# Altium footprint library 贴片.PcbLib: 190 footprints (part 7 of 13)
Each footprint in its own frame and in the unit in brackets; x right, y up, seen from the top. Pads: shape width x height; smd on the part's side, far side on the other; paste and mask are expansions set on the pad; w line width, h text height; cw(c..) or ccw(c..) is an arc to the next point about the centre after c.
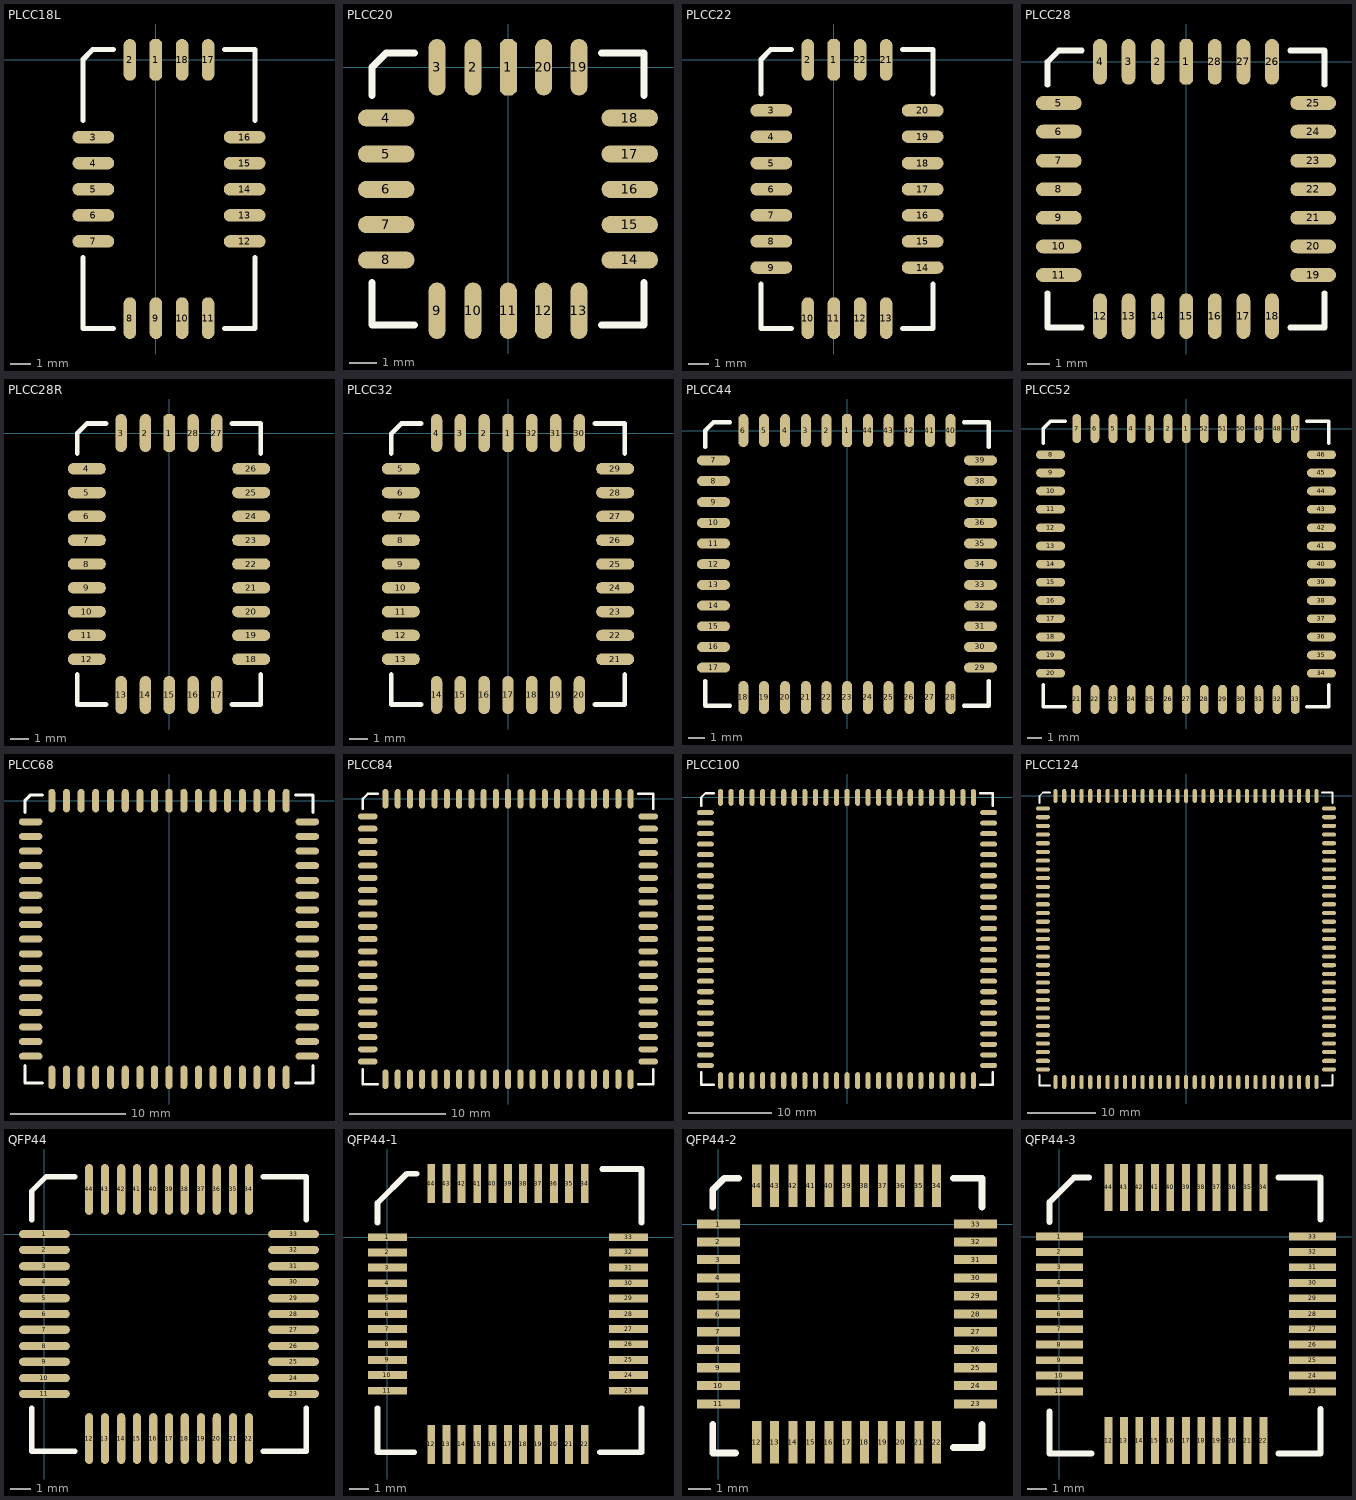
[diagram p6: the footprints below, top view; thin cyan lines are the x and y axes]

## PLCC18L [mil]
pads (18):
  oct 24x80 smd: 1(0,0)
  oval 24x80 smd: 2(-50,0) 8(-50,-495) 9(0,-495) 10(50,-495) 11(100,-495) 17(100,0) 18(50,0)
  oval 80x24 smd: 3(-120,-148) 4(-120,-198) 5(-120,-248) 6(-120,-298) 7(-120,-348) 12(170,-348) 13(170,-298) 14(170,-248) 15(170,-198) 16(170,-148)
TopOverlay:
  lines w10: -140,-379 -140,-515 -82,-515 ; -140,-116 -140,1 -121,20 -82,20 ; 132,-515 190,-515 190,-379 ; 132,20 190,20 190,-116

## PLCC20 [mil]
pads (20):
  oct 24x80 smd: 1(0,0)
  oval 24x80 smd: 2(-50,0) 3(-101,0) 9(-101,-345) 10(-50,-345) 11(0,-345) 12(50,-345) 13(100,-345) 19(100,0) 20(50,0)
  oval 80x24 smd: 4(-173,-72) 5(-173,-123) 6(-173,-173) 7(-173,-223) 8(-173,-273) 14(172,-273) 15(172,-223) 16(172,-173) 17(172,-123) 18(172,-72)
TopOverlay:
  lines w10: -193,-305 -193,-365 -133,-365 ; -193,-40 -193,0 -173,20 -133,20 ; 132,-365 192,-365 192,-305 ; 132,20 192,20 192,-40

## PLCC22 [mil]
pads (22):
  oct 24x80 smd: 1(0,0)
  oval 24x80 smd: 2(-50,0) 10(-50,-495) 11(0,-495) 12(50,-495) 13(100,-495) 21(100,0) 22(50,0)
  oval 80x24 smd: 3(-120,-97) 4(-120,-147) 5(-120,-198) 6(-120,-248) 7(-120,-298) 8(-120,-348) 9(-120,-398) 14(170,-398) 15(170,-348) 16(170,-298) 17(170,-248) 18(170,-198) 19(170,-147) 20(170,-97)
TopOverlay:
  lines w10: -140,-430 -140,-515 -82,-515 ; -140,-65 -140,1 -121,20 -82,20 ; 132,-515 190,-515 190,-430 ; 132,20 190,20 190,-65

## PLCC28 [mil]
pads (28):
  oct 24x80 smd: 1(0,0)
  oval 24x80 smd: 2(-50,0) 3(-101,0) 4(-151,0) 12(-151,-445) 13(-101,-445) 14(-50,-445) 15(0,-445) 16(50,-445) 17(100,-445) 18(150,-445) 26(150,0) 27(100,0) 28(50,0)
  oval 80x24 smd: 5(-223,-72) 6(-223,-122) 7(-223,-173) 8(-223,-223) 9(-223,-273) 10(-223,-323) 11(-223,-373) 19(222,-373) 20(222,-323) 21(222,-273) 22(222,-223) 23(222,-173) 24(222,-122) 25(222,-72)
TopOverlay:
  lines w10: -243,-405 -243,-465 -183,-465 ; -243,-40 -243,0 -223,20 -183,20 ; 182,-465 242,-465 242,-405 ; 182,20 242,20 242,-40

## PLCC28R [mil]
pads (28):
  oct 24x80 smd: 1(0,0)
  oval 24x80 smd: 2(-50,0) 3(-101,0) 13(-101,-550) 14(-50,-550) 15(0,-550) 16(50,-550) 17(100,-550) 27(100,0) 28(50,0)
  oval 80x24 smd: 4(-173,-75) 5(-173,-125) 6(-173,-175) 7(-173,-225) 8(-173,-275) 9(-173,-325) 10(-173,-375) 11(-173,-425) 12(-173,-475) 18(172,-475) 19(172,-425) 20(172,-375) 21(172,-325) 22(172,-275) 23(172,-225) 24(172,-175) 25(172,-125) 26(172,-75)
TopOverlay:
  lines w10: -193,-507 -193,-570 -133,-570 ; -193,-43 -193,0 -173,20 -133,20 ; 132,-570 192,-570 192,-507 ; 132,20 192,20 192,-43

## PLCC32 [mil]
pads (32):
  oct 24x80 smd: 1(0,0)
  oval 24x80 smd: 2(-50,0) 3(-100,0) 4(-150,0) 14(-150,-550) 15(-100,-550) 16(-50,-550) 17(0,-550) 18(50,-550) 19(100,-550) 20(150,-550) 30(150,0) 31(100,0) 32(50,0)
  oval 80x24 smd: 5(-225,-75) 6(-225,-125) 7(-225,-175) 8(-225,-225) 9(-225,-275) 10(-225,-325) 11(-225,-375) 12(-225,-425) 13(-225,-475) 21(225,-475) 22(225,-425) 23(225,-375) 24(225,-325) 25(225,-275) 26(225,-225) 27(225,-175) 28(225,-125) 29(225,-75)
TopOverlay:
  lines w10: -245,-507 -245,-570 -182,-570 ; -245,-43 -245,-1 -224,20 -182,20 ; 182,-570 245,-570 245,-507 ; 182,20 245,20 245,-43

## PLCC44 [mil]
pads (44):
  oct 24x80 smd: 1(0,0)
  oval 24x80 smd: 2(-50,0) 3(-100,0) 4(-150,0) 5(-201,0) 6(-251,0) 18(-251,-645) 19(-201,-645) 20(-150,-645) 21(-100,-645) 22(-50,-645) 23(0,-645) 24(50,-645) 25(100,-645) 26(150,-645) 27(200,-645) 28(250,-645) 40(250,0) 41(200,0) 42(150,0) 43(100,0) 44(50,0)
  oval 80x24 smd: 7(-323,-72) 8(-323,-122) 9(-323,-173) 10(-323,-223) 11(-323,-273) 12(-323,-323) 13(-323,-373) 14(-323,-423) 15(-323,-473) 16(-323,-523) 17(-323,-573) 29(322,-573) 30(322,-523) 31(322,-473) 32(322,-423) 33(322,-373) 34(322,-323) 35(322,-273) 36(322,-223) 37(322,-173) 38(322,-122) 39(322,-72)
TopOverlay:
  lines w10: -343,-605 -343,-665 -283,-665 ; -343,-40 -343,0 -323,20 -283,20 ; 282,-665 342,-665 342,-605 ; 282,20 342,20 342,-40

## PLCC52 [mil]
pads (52):
  oct 24x80 smd: 1(0,0)
  oval 24x80 smd: 2(-50,0) 3(-100,0) 4(-151,0) 5(-201,0) 6(-251,0) 7(-301,0) 21(-301,-745) 22(-251,-745) 23(-201,-745) 24(-151,-745) 25(-100,-745) 26(-50,-745) 27(0,-745) 28(50,-745) 29(100,-745) 30(150,-745) 31(200,-745) 32(250,-745) 33(300,-745) 47(300,0) 48(250,0) 49(200,0) 50(150,0) 51(100,0) 52(50,0)
  oval 80x24 smd: 8(-373,-72) 9(-373,-122) 10(-373,-172) 11(-373,-222) 12(-373,-273) 13(-373,-323) 14(-373,-373) 15(-373,-423) 16(-373,-473) 17(-373,-523) 18(-373,-573) 19(-373,-623) 20(-373,-673) 34(372,-673) 35(372,-623) 36(372,-573) 37(372,-523) 38(372,-473) 39(372,-423) 40(372,-373) 41(372,-323) 42(372,-273) 43(372,-222) 44(372,-172) 45(372,-122) 46(372,-72)
TopOverlay:
  lines w10: -393,-705 -393,-765 -333,-765 ; -393,-40 -393,0 -373,20 -333,20 ; 332,-765 392,-765 392,-705 ; 332,20 392,20 392,-40

## PLCC68 [mil]
pads (68):
  oct 24x80 smd: 1(0,0)
  oval 24x80 smd: 2(-50,0) 3(-100,0) 4(-150,0) 5(-200,0) 6(-251,0) 7(-301,0) 8(-351,0) 9(-401,0) 27(-401,-945) 28(-351,-945) 29(-301,-945) 30(-251,-945) 31(-200,-945) 32(-150,-945) 33(-100,-945) 34(-50,-945) 35(0,-945) 36(50,-945) 37(100,-945) 38(150,-945) 39(200,-945) 40(250,-945) 41(300,-945) 42(350,-945) 43(400,-945) 61(400,0) 62(350,0) 63(300,0) 64(250,0) 65(200,0) 66(150,0) 67(100,0) 68(50,0)
  oval 80x24 smd: 10(-473,-72) 11(-473,-122) 12(-473,-172) 13(-473,-222) 14(-473,-273) 15(-473,-323) 16(-473,-373) 17(-473,-423) 18(-473,-473) 19(-473,-523) 20(-473,-573) 21(-473,-623) 22(-473,-673) 23(-473,-723) 24(-473,-773) 25(-473,-823) 26(-473,-873) 44(472,-873) 45(472,-823) 46(472,-773) 47(472,-723) 48(472,-673) 49(472,-623) 50(472,-573) 51(472,-523) 52(472,-473) 53(472,-423) 54(472,-373) 55(472,-323) 56(472,-273) 57(472,-222) 58(472,-172) 59(472,-122) 60(472,-72)
TopOverlay:
  lines w10: -493,-905 -493,-965 -433,-965 ; -493,-40 -493,0 -473,20 -433,20 ; 432,-965 492,-965 492,-905 ; 432,20 492,20 492,-40

## PLCC84 [mil]
pads (84):
  oct 24x80 smd: 1(0,0)
  oval 24x80 smd: 2(-50,0) 3(-100,0) 4(-150,0) 5(-200,0) 6(-250,0) 7(-300,0) 8(-351,0) 9(-401,0) 10(-451,0) 11(-501,0) 33(-501,-1145) 34(-451,-1145) 35(-401,-1145) 36(-351,-1145) 37(-300,-1145) 38(-250,-1145) 39(-200,-1145) 40(-150,-1145) 41(-100,-1145) 42(-50,-1145) 43(0,-1145) 44(50,-1145) 45(100,-1145) 46(150,-1145) 47(200,-1145) 48(250,-1145) 49(300,-1145) 50(350,-1145) 51(400,-1145) 52(450,-1145) 53(500,-1145) 75(500,0) 76(450,0) 77(400,0) 78(350,0) 79(300,0) 80(250,0) 81(200,0) 82(150,0) 83(100,0) 84(50,0)
  oval 80x24 smd: 12(-573,-72) 13(-573,-122) 14(-573,-172) 15(-573,-222) 16(-573,-273) 17(-573,-323) 18(-573,-373) 19(-573,-423) 20(-573,-473) 21(-573,-523) 22(-573,-573) 23(-573,-623) 24(-573,-673) 25(-573,-723) 26(-573,-773) 27(-573,-823) 28(-573,-873) 29(-573,-923) 30(-573,-973) 31(-573,-1023) 32(-573,-1073) 54(572,-1073) 55(572,-1023) 56(572,-973) 57(572,-923) 58(572,-873) 59(572,-823) 60(572,-773) 61(572,-723) 62(572,-673) 63(572,-623) 64(572,-573) 65(572,-523) 66(572,-473) 67(572,-423) 68(572,-373) 69(572,-323) 70(572,-273) 71(572,-222) 72(572,-172) 73(572,-122) 74(572,-72)
TopOverlay:
  lines w10: -593,-1105 -593,-1165 -533,-1165 ; -593,-40 -593,0 -573,20 -533,20 ; 532,-1165 592,-1165 592,-1105 ; 532,20 592,20 592,-40

## PLCC100 [mil]
pads (100):
  oct 24x80 smd: 1(0,0)
  oval 24x80 smd: 2(-50,0) 3(-100,0) 4(-150,0) 5(-201,0) 6(-251,0) 7(-301,0) 8(-351,0) 9(-401,0) 10(-451,0) 11(-501,0) 12(-551,0) 13(-601,0) 39(-601,-1345) 40(-551,-1345) 41(-501,-1345) 42(-451,-1345) 43(-401,-1345) 44(-351,-1345) 45(-301,-1345) 46(-251,-1345) 47(-201,-1345) 48(-150,-1345) 49(-100,-1345) 50(-50,-1345) 51(0,-1345) 52(50,-1345) 53(100,-1345) 54(150,-1345) 55(200,-1345) 56(250,-1345) 57(300,-1345) 58(350,-1345) 59(400,-1345) 60(450,-1345) 61(500,-1345) 62(550,-1345) 63(600,-1345) 89(600,0) 90(550,0) 91(500,0) 92(450,0) 93(400,0) 94(350,0) 95(300,0) 96(250,0) 97(200,0) 98(150,0) 99(100,0) 100(50,0)
  oval 80x24 smd: 14(-673,-72) 15(-673,-122) 16(-673,-172) 17(-673,-222) 18(-673,-272) 19(-673,-322) 20(-673,-372) 21(-673,-422) 22(-673,-472) 23(-673,-523) 24(-673,-573) 25(-673,-623) 26(-673,-673) 27(-673,-723) 28(-673,-773) 29(-673,-823) 30(-673,-873) 31(-673,-923) 32(-673,-973) 33(-673,-1023) 34(-673,-1073) 35(-673,-1123) 36(-673,-1173) 37(-673,-1223) 38(-673,-1273) 64(672,-1273) 65(672,-1223) 66(672,-1173) 67(672,-1123) 68(672,-1073) 69(672,-1023) 70(672,-973) 71(672,-923) 72(672,-873) 73(672,-823) 74(672,-773) 75(672,-723) 76(672,-673) 77(672,-623) 78(672,-573) 79(672,-523) 80(672,-472) 81(672,-422) 82(672,-372) 83(672,-322) 84(672,-272) 85(672,-222) 86(672,-172) 87(672,-122) 88(672,-72)
TopOverlay:
  lines w10: -693,-1305 -693,-1365 -633,-1365 ; -693,-40 -693,0 -673,20 -633,20 ; 632,-1365 692,-1365 692,-1305 ; 632,20 692,20 692,-40

## PLCC124 [mil]
pads (124):
  oct 24x80 smd: 1(0,0)
  oval 24x80 smd: 2(-50,0) 3(-100,0) 4(-150,0) 5(-200,0) 6(-250,0) 7(-300,0) 8(-351,0) 9(-401,0) 10(-451,0) 11(-501,0) 12(-551,0) 13(-601,0) 14(-651,0) 15(-701,0) 16(-751,0) 48(-751,-1645) 49(-701,-1645) 50(-651,-1645) 51(-601,-1645) 52(-551,-1645) 53(-501,-1645) 54(-451,-1645) 55(-401,-1645) 56(-351,-1645) 57(-300,-1645) 58(-250,-1645) 59(-200,-1645) 60(-150,-1645) 61(-100,-1645) 62(-50,-1645) 63(0,-1645) 64(50,-1645) 65(100,-1645) 66(150,-1645) 67(200,-1645) 68(250,-1645) 69(300,-1645) 70(350,-1645) 71(400,-1645) 72(450,-1645) 73(500,-1645) 74(550,-1645) 75(600,-1645) 76(650,-1645) 77(700,-1645) 78(750,-1645) 110(750,0) 111(700,0) 112(650,0) 113(600,0) 114(550,0) 115(500,0) 116(450,0) 117(400,0) 118(350,0) 119(300,0) 120(250,0) 121(200,0) 122(150,0) 123(100,0) 124(50,0)
  oval 80x24 smd: 17(-823,-72) 18(-823,-122) 19(-823,-172) 20(-823,-222) 21(-823,-272) 22(-823,-322) 23(-823,-372) 24(-823,-422) 25(-823,-472) 26(-823,-523) 27(-823,-573) 28(-823,-623) 29(-823,-673) 30(-823,-723) 31(-823,-773) 32(-823,-823) 33(-823,-873) 34(-823,-923) 35(-823,-973) 36(-823,-1023) 37(-823,-1073) 38(-823,-1123) 39(-823,-1173) 40(-823,-1223) 41(-823,-1273) 42(-823,-1323) 43(-823,-1373) 44(-823,-1423) 45(-823,-1473) 46(-823,-1523) 47(-823,-1573) 79(822,-1573) 80(822,-1523) 81(822,-1473) 82(822,-1423) 83(822,-1373) 84(822,-1323) 85(822,-1273) 86(822,-1223) 87(822,-1173) 88(822,-1123) 89(822,-1073) 90(822,-1023) 91(822,-973) 92(822,-923) 93(822,-873) 94(822,-823) 95(822,-773) 96(822,-723) 97(822,-673) 98(822,-623) 99(822,-573) 100(822,-523) 101(822,-472) 102(822,-422) 103(822,-372) 104(822,-322) 105(822,-272) 106(822,-222) 107(822,-172) 108(822,-122) 109(822,-72)
TopOverlay:
  lines w10: -843,-1605 -843,-1665 -783,-1665 ; -843,-40 -843,0 -823,20 -783,20 ; 782,-1665 842,-1665 842,-1605 ; 782,20 842,20 842,-40

## QFP44 [mil]
pads (44):
  oval 100x16 smd: 1(0,0) 2(0,-31) 3(0,-63) 4(0,-94) 5(0,-126) 6(0,-157) 7(0,-188) 8(0,-220) 9(0,-251) 10(0,-283) 11(0,-314) 23(490,-314) 24(490,-283) 25(490,-251) 26(490,-220) 27(490,-188) 28(490,-157) 29(490,-126) 30(490,-94) 31(490,-63) 32(490,-31) 33(490,0)
  oval 16x100 smd: 12(88,-402) 13(119,-402) 14(151,-402) 15(182,-402) 16(214,-402) 17(245,-402) 18(276,-402) 19(308,-402) 20(339,-402) 21(371,-402) 22(402,-402) 34(402,88) 35(371,88) 36(339,88) 37(308,88) 38(276,88) 39(245,88) 40(214,88) 41(182,88) 42(151,88) 43(119,88) 44(88,88)
TopOverlay:
  lines w10: -25,-342 -25,-427 60,-427 ; -25,28 -25,85 3,113 60,113 ; 430,-427 515,-427 515,-342 ; 430,113 515,113 515,28

## QFP44-1 [mil]
pads (44):
  rect 80x16 smd: 1(0,0) 2(0,-31) 3(0,-62) 4(0,-94) 5(0,-125) 6(0,-157) 7(0,-188) 8(0,-219) 9(0,-251) 10(0,-282) 11(0,-314) 23(494,-314) 24(494,-282) 25(494,-251) 26(494,-219) 27(494,-188) 28(494,-157) 29(494,-125) 30(494,-94) 31(494,-62) 32(494,-31) 33(494,0)
  rect 16x80 smd: 12(90,-424) 13(121,-424) 14(152,-424) 15(184,-424) 16(215,-424) 17(247,-424) 18(278,-424) 19(309,-424) 20(341,-424) 21(372,-424) 22(404,-424) 34(404,110) 35(372,110) 36(341,110) 37(309,110) 38(278,110) 39(247,110) 40(215,110) 41(184,110) 42(152,110) 43(121,110) 44(90,110)
TopOverlay:
  lines w12: -20,-350 -20,-440 55,-440 ; -20,30 -20,70 40,130 60,130 ; 435,-440 520,-440 520,-350 ; 440,140 520,140 520,30

## QFP44-2 [mil]
pads (44):
  rect 75x16 smd: 1(0,0) 2(0,-31) 3(0,-62) 4(0,-94) 5(0,-125) 6(0,-157) 7(0,-188) 8(0,-219) 9(0,-251) 10(0,-282) 11(0,-314) 23(449,-314) 24(449,-282) 25(449,-251) 26(449,-219) 27(449,-188) 28(449,-157) 29(449,-125) 30(449,-94) 31(449,-62) 32(449,-31) 33(449,0)
  rect 16x75 smd: 12(67,-381) 13(98,-381) 14(130,-381) 15(161,-381) 16(193,-381) 17(224,-381) 18(255,-381) 19(287,-381) 20(318,-381) 21(350,-381) 22(381,-381) 34(381,67) 35(350,67) 36(318,67) 37(287,67) 38(255,67) 39(224,67) 40(193,67) 41(161,67) 42(130,67) 43(98,67) 44(67,67)
TopOverlay:
  lines w12: -10,-350 -10,-400 30,-400 ; -10,30 -10,60 10,80 35,80 ; 410,-390 460,-390 460,-350 ; 410,80 460,80 460,30

## QFP44-3 [mil]
pads (44):
  rect 95x16 smd: 1(0,0) 2(0,-31) 3(0,-62) 4(0,-94) 5(0,-125) 6(0,-157) 7(0,-188) 8(0,-219) 9(0,-251) 10(0,-282) 11(0,-314) 23(514,-314) 24(514,-282) 25(514,-251) 26(514,-219) 27(514,-188) 28(514,-157) 29(514,-125) 30(514,-94) 31(514,-62) 32(514,-31) 33(514,0)
  rect 16x95 smd: 12(100,-414) 13(131,-414) 14(162,-414) 15(194,-414) 16(225,-414) 17(257,-414) 18(288,-414) 19(319,-414) 20(351,-414) 21(382,-414) 22(414,-414) 34(414,100) 35(382,100) 36(351,100) 37(319,100) 38(288,100) 39(257,100) 40(225,100) 41(194,100) 42(162,100) 43(131,100) 44(100,100)
TopOverlay:
  lines w12: -20,-355 -20,-440 65,-440 ; -20,30 -20,70 30,120 60,120 ; 445,-440 530,-440 530,-350 ; 445,120 530,120 530,35